# Altium footprint library BAT_1072.PcbLib: 1 footprints
Each footprint in its own frame and in the unit in brackets; x right, y up, seen from the top. Pads: shape width x height; smd on the part's side, far side on the other; paste and mask are expansions set on the pad; w line width, h text height; cw(c..) or ccw(c..) is an arc to the next point about the centre after c.
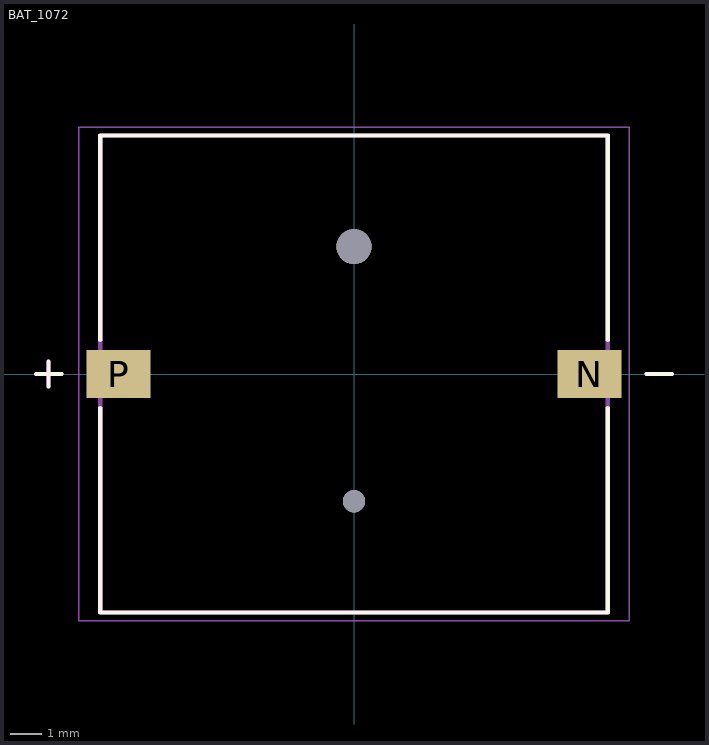
[diagram p0: the footprint, top view; thin cyan lines are the x and y axes]

## BAT_1072 [mm]
height 3.7
pads (4):
  rect 2x1.5 smd: N(7.4,0) P(-7.4,0)
  round 0.7 hole 0.7 unplated: ""(0,-4)
  round 1.1 hole 1.1 unplated: ""(0,4)
Top Overlay:
  lines w0.127: -10,0 -9.2,0 ; -9.6,-0.4 -9.6,0.4 ; -7.975,-1.07 -7.975,-7.5 7.975,-7.5 7.975,-1.07 ; -7.975,1.07 -7.975,7.5 7.975,7.5 7.975,1.07 ; 9.2,0 10,0
Assembly Top:
  lines w0.127: -10,0 -9.2,0 ; -9.6,-0.4 -9.6,0.4 ; 9.2,0 10,0 ; -7.975,-7.5 -7.975,7.5 7.975,7.5 7.975,-7.5 -7.975,-7.5
Courtyard Top:
  lines w0.05: -8.65,-7.75 -8.65,7.75 8.65,7.75 8.65,-7.75 -8.65,-7.75
3D body "step_temp.STEP": height 3.75, standoff -0.65, extent -7.95,-5.195 7.95,5.195